# Altium schematic symbol library PUSB3AB6Z.SchLib: 1 symbol
Pins are listed as number, name and electrical type; pins without a type are passive.

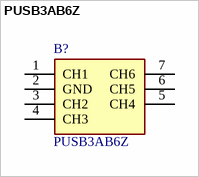
[diagram p0: symbol PUSB3AB6Z]

## PUSB3AB6Z
designator B?
Nexperia PUSB3AB6Z, Hex-Element ESD Protection Diode, 7-Pin DFN2111; Geometry.Height: 0.5mm; Manufacturer_Name: Nexperia; Manufacturer_Part_Number: PUSB3AB6Z; Mouser Part Number: 771-PUSB3AB6Z; Mouser Price/Stock: https://www.mouser.co.uk/ProductDetail/Nexperia/PUSB3AB6Z?qs=K2OaAKmNuLgoMk8bcuWLKw%3D%3D; Arrow Part Number: PUSB3AB6Z; Arrow Price/Stock: https://www.arrow.com/en/products/pusb3ab6z/nexperia?region=nac; Datasheet Link: https://assets.nexperia.com/documents/data-sheet/PUSB3AB6.pdf
footprint PUSB3AB6Z
pins: 1 CH1, 2 GND, 3 CH2, 4 CH3, 5 CH4, 6 CH5, 7 CH6